# EAGLE library part AP7312 (library AP7312)
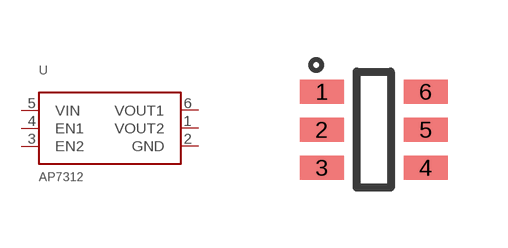
[diagram p0: symbol with the pads of SOT95P280X145-6N; footprint SOT95P280X145-6N]

Designator prefix U

## AP7312  [SOT95P280X145-6N]
1  VOUT2  pwr
2  GND
3  EN2
4  EN1
5  VIN  pwr
6  VOUT1  pwr

## Footprint SOT95P280X145-6N (pad centres in mm)
smd 1.1 x 0.6: 1 -1.3,0.95; 2 -1.3,0; 3 -1.3,-0.95; 4 1.3,-0.95; 5 1.3,0; 6 1.3,0.95